# EAGLE library part MIC2253-06 (library MTS-OTR_Custom)
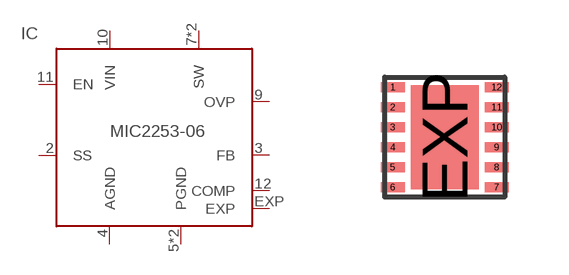
[diagram p3: symbol with the pads of MLF12; footprint MLF12]

Designator prefix IC

## MIC2253-06  [MLF12]
2  SS  in
3  FB  in
4  AGND  in
5  PGND  in
6  PGND  in
7  SW  oc
8  SW  oc
9  OVP  in
10  VIN  in
11  EN  in
12  COMP  pas
EXP  EXP  in

## Footprint MLF12 (pad centres in mm)
MFL12 for MIC2253-06
smd 0.6 x 0.25: 1 -1.3,1.25; 2 -1.3,0.75; 3 -1.3,0.25; 4 -1.3,-0.25; 5 -1.3,-0.75; 6 -1.3,-1.25; 7 1.3,-1.25; 8 1.3,-0.75; 9 1.3,-0.25; 10 1.3,0.25; 11 1.3,0.75; 12 1.3,1.25
smd 1.7 x 2.6: EXP 0,0